# EAGLE library part LM5160DNT (library HEXABITZ_ICs)
LM5160 wide input 65V, 2A synchronous buck/Fly-Buck™ converter 12-WSON -40 to 125
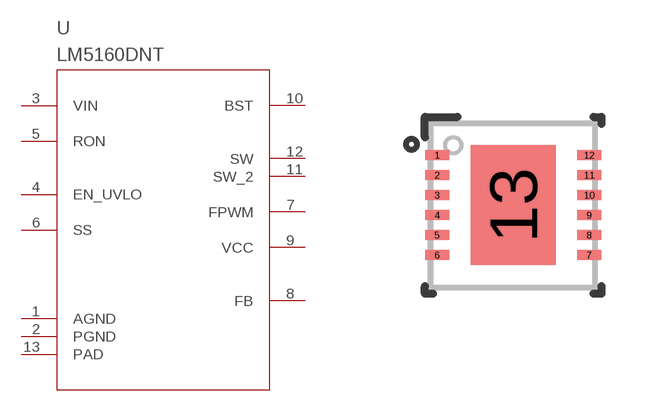
[diagram p5: symbol with the pads of DNT0012B; footprint DNT0012B]

Designator prefix U

## LM5160DNT (COMPTYPE: IC; MANUFACTURER: Texas Instruments; MFN: Texas Instruments; MOUNTTYPE: SMT; MPN: LM5160DNT; OCTOPART_URL: https://octopart.com/lm5160dntt-texas+instruments-51761725?r=sp&s=sYhYnlaHQIStkk-s71hgUg; PACKAGEREFERENCE: DNT0012B; PARTNUMBER: LM5160DNT; PIN_COUNT: 13; REFDES: RefDes; ROHS: Y; TYPE: TYPE; VALUE: LM5160DNT)  [DNT0012B]
1  AGND  pwr
2  PGND  pwr
3  VIN  pwr
4  EN_UVLO  in
5  RON  in
6  SS  in
7  FPWM  in
8  FB  in
9  VCC  pwr
10  BST  pwr
11  SW_2  pwr
12  SW  pwr
13  PAD  pwr

## Footprint DNT0012B (pad centres in mm)
smd 0.6 x 0.25: 1 -1.9,1.25; 2 -1.9,0.75; 3 -1.9,0.25; 4 -1.9,-0.25; 5 -1.9,-0.75; 6 -1.9,-1.25; 7 1.9,-1.25; 8 1.9,-0.75; 9 1.9,-0.25; 10 1.9,0.25; 11 1.9,0.75; 12 1.9,1.25
smd 2.134 x 3: 13 0,0